# Altium footprint library D2PAK TO-263-3.PcbLib: 1 footprints
Each footprint in its own frame and in the unit in brackets; x right, y up, seen from the top. Pads: shape width x height; smd on the part's side, far side on the other; paste and mask are expansions set on the pad; w line width, h text height; cw(c..) or ccw(c..) is an arc to the next point about the centre after c.
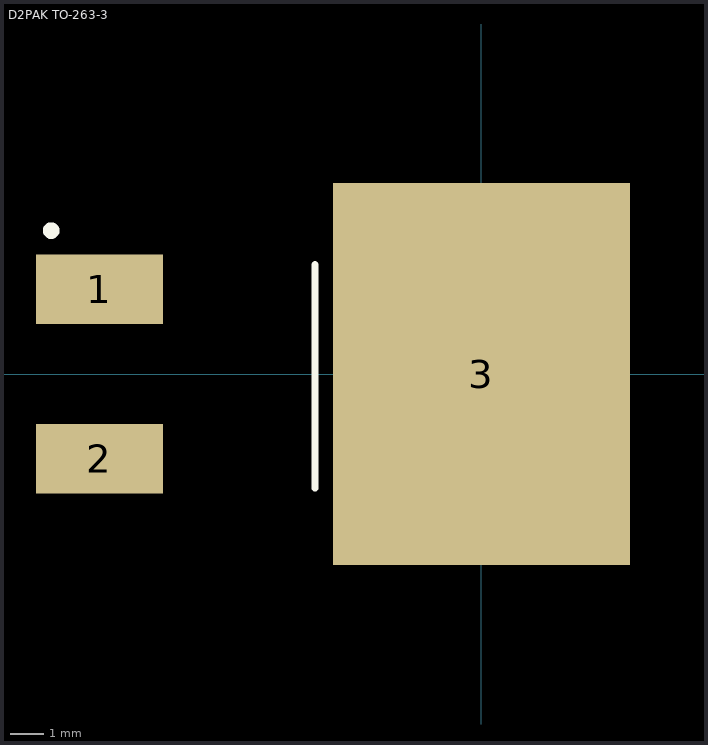
[diagram p0: the footprint, top view; thin cyan lines are the x and y axes]

## D2PAK TO-263-3 [mil]
pads (3):
  rect 150x82 smd: 1(-450,100) 2(-450,-100)
  rect 350x450 smd: 3(0,0)
Top Overlay:
  circle w9.84: c-506.92,169 r4.92
  lines w7.87: -196,-134.78 -196,129
Mechanical 15:
  lines w3.94: -19.68,0 19.69,0 ; 0,-19.68 0,19.69
3D body: height 143.9, standoff -53.66, extent -485,-200 115.93,200